# EAGLE library part LM4881 (library ic)
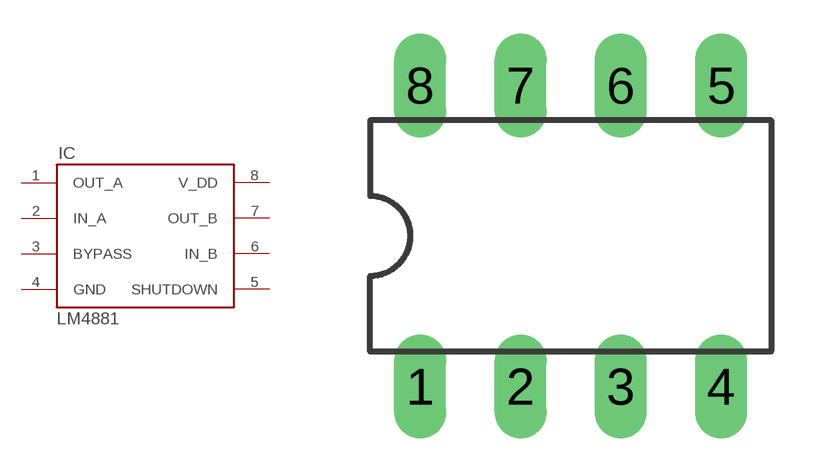
[diagram p13: symbol with the pads of 8PIN; footprint 8PIN]

Designator prefix IC

## LM4881  [8PIN]
1  OUT_A
2  IN_A
3  BYPASS
4  GND
5  SHUTDOWN
6  IN_B
7  OUT_B
8  V_DD

## Footprint 8PIN (pad centres in mm)
drill 0.813 long: 1 -3.81,-3.81; 2 -1.27,-3.81; 3 1.27,-3.81; 4 3.81,-3.81; 5 3.81,3.81; 6 1.27,3.81; 7 -1.27,3.81; 8 -3.81,3.81